# Altium footprint library PTS645SK43SMTR92LFS.PcbLib: 3 footprints
Each footprint in its own frame and in the unit in brackets; x right, y up, seen from the top. Pads: shape width x height; smd on the part's side, far side on the other; paste and mask are expansions set on the pad; w line width, h text height; cw(c..) or ccw(c..) is an arc to the next point about the centre after c.
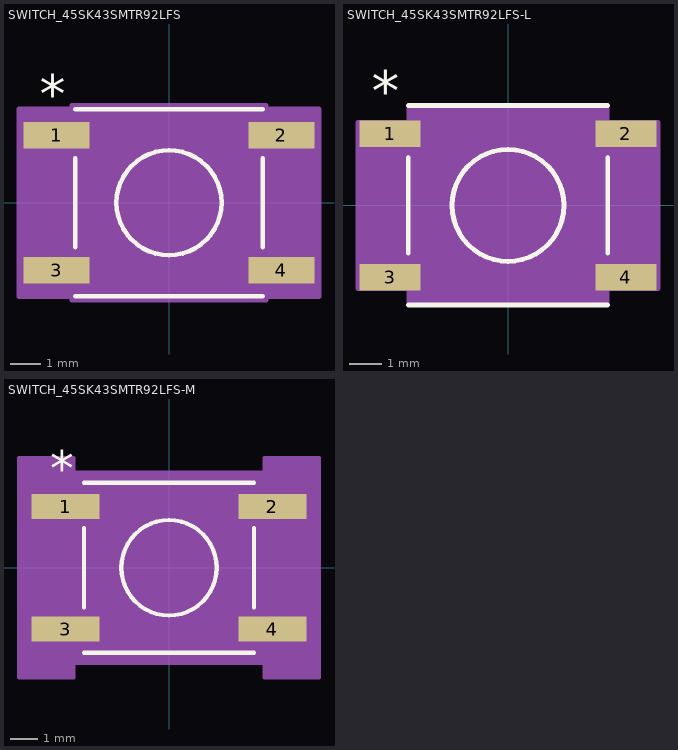
[diagram p0: the footprints below, top view; thin cyan lines are the x and y axes]

## SWITCH_45SK43SMTR92LFS [mm]
pads (4):
  rect 2.199x0.873 smd paste+0 mask+0: 1(-3.746,2.25) 2(3.746,2.25) 3(-3.746,-2.25) 4(3.746,-2.25)
Top Overlay:
  circle w0.152: c0,0 r1.753
  lines w0.152: -3.124,-3.124 3.124,-3.124 ; -3.124,-1.481 -3.124,1.481 ; -3.124,3.124 3.124,3.124 ; 3.124,-1.481 3.124,1.481
  text ".Designator" at -3.492,-0.635 h1.27
  text "*" at -4.318,2.996 h1.27
Mechanical 13:
  circle w0.025: c0,0 r1.753
  lines w0.025: -4.496,-2.656 -4.496,-1.844 -2.997,-1.844 -2.997,-2.656 -4.496,-2.656 ; -4.496,1.844 -4.496,2.656 -2.997,2.656 -2.997,1.844 -4.496,1.844 ; -2.997,-2.997 2.997,-2.997 2.997,2.997 -2.997,2.997 -2.997,-2.997 ; 2.997,-2.656 2.997,-1.844 4.496,-1.844 4.496,-2.656 2.997,-2.656 ; 2.997,1.844 2.997,2.656 4.496,2.656 4.496,1.844 2.997,1.844
  text "*" at -2.934,1.472 h1.27
  text ".Designator" at -3.492,-0.635 h1.27
Mechanical 15:
  region: 3.251,-3.251 -3.251,-3.251 -3.251,-3.139 -5.004,-3.139 -5.004,3.139 -3.251,3.139 -3.251,3.251 3.251,3.251 3.251,3.139 5.004,3.139 5.004,-3.139 3.251,-3.139
  lines w0.152: -5.004,-3.139 -3.251,-3.139 -3.251,-3.251 3.251,-3.251 3.251,-3.139 5.004,-3.139 5.004,3.139 3.251,3.139 3.251,3.251 -3.251,3.251 -3.251,3.139 -5.004,3.139 -5.004,-3.139

## SWITCH_45SK43SMTR92LFS-L [mm]
pads (4):
  rect 1.899x0.833 smd paste+0 mask+0: 1(-3.697,2.25) 2(3.697,2.25) 3(-3.697,-2.25) 4(3.697,-2.25)
Top Overlay:
  circle w0.152: c0,0 r1.753
  lines w0.152: -3.124,-3.124 3.124,-3.124 ; -3.124,-1.501 -3.124,1.501 ; -3.124,3.124 3.124,3.124 ; 3.124,-1.501 3.124,1.501
  text ".Designator" at -3.492,-0.635 h1.27
  text "*" at -4.268,2.956 h1.27
Mechanical 13:
  circle w0.025: c0,0 r1.753
  lines w0.025: -4.496,-2.656 -4.496,-1.844 -2.997,-1.844 -2.997,-2.656 -4.496,-2.656 ; -4.496,1.844 -4.496,2.656 -2.997,2.656 -2.997,1.844 -4.496,1.844 ; -2.997,-2.997 2.997,-2.997 2.997,2.997 -2.997,2.997 -2.997,-2.997 ; 2.997,-2.656 2.997,-1.844 4.496,-1.844 4.496,-2.656 2.997,-2.656 ; 2.997,1.844 2.997,2.656 4.496,2.656 4.496,1.844 2.997,1.844
  text "*" at -2.934,1.432 h1.27
  text ".Designator" at -3.492,-0.635 h1.27
Mechanical 15:
  region: 3.099,-3.099 -3.099,-3.099 -3.099,-2.606 -4.699,-2.606 -4.699,2.606 -3.099,2.606 -3.099,3.099 3.099,3.099 3.099,2.606 4.699,2.606 4.699,-2.606 3.099,-2.606
  lines w0.152: -4.699,-2.606 -3.099,-2.606 -3.099,-3.099 3.099,-3.099 3.099,-2.606 4.699,-2.606 4.699,2.606 3.099,2.606 3.099,3.099 -3.099,3.099 -3.099,2.606 -4.699,2.606 -4.699,-2.606

## SWITCH_45SK43SMTR92LFS-M [mm]
pads (4):
  rect 2.499x0.913 smd paste+0 mask+0: 1(-3.796,2.25) 2(3.796,2.25) 3(-3.796,-2.25) 4(3.796,-2.25)
Top Overlay:
  circle w0.152: c0,0 r1.753
  lines w0.152: -3.124,-3.124 3.124,-3.124 ; -3.124,-1.461 -3.124,1.461 ; -3.124,3.124 3.124,3.124 ; 3.124,-1.461 3.124,1.461
  text ".Designator" at -3.492,-0.635 h1.27
  text "*" at -4.368,3.036 h1.27
Mechanical 13:
  circle w0.025: c0,0 r1.753
  lines w0.025: -4.496,-2.656 -4.496,-1.844 -2.997,-1.844 -2.997,-2.656 -4.496,-2.656 ; -4.496,1.844 -4.496,2.656 -2.997,2.656 -2.997,1.844 -4.496,1.844 ; -2.997,-2.997 2.997,-2.997 2.997,2.997 -2.997,2.997 -2.997,-2.997 ; 2.997,-2.656 2.997,-1.844 4.496,-1.844 4.496,-2.656 2.997,-2.656 ; 2.997,1.844 2.997,2.656 4.496,2.656 4.496,1.844 2.997,1.844
  text "*" at -2.934,1.512 h1.27
  text ".Designator" at -3.492,-0.635 h1.27
Mechanical 15:
  region: 3.505,-3.505 -3.505,-3.505 -3.505,-4.028 -5.512,-4.028 -5.512,4.028 -3.505,4.028 -3.505,3.505 3.505,3.505 3.505,4.028 5.512,4.028 5.512,-4.028 3.505,-4.028
  lines w0.152: -5.512,-4.028 -3.505,-4.028 -3.505,-3.505 3.505,-3.505 3.505,-4.028 5.512,-4.028 5.512,4.028 3.505,4.028 3.505,3.505 -3.505,3.505 -3.505,4.028 -5.512,4.028 -5.512,-4.028